# EAGLE library part FRM12 (library RFM12)
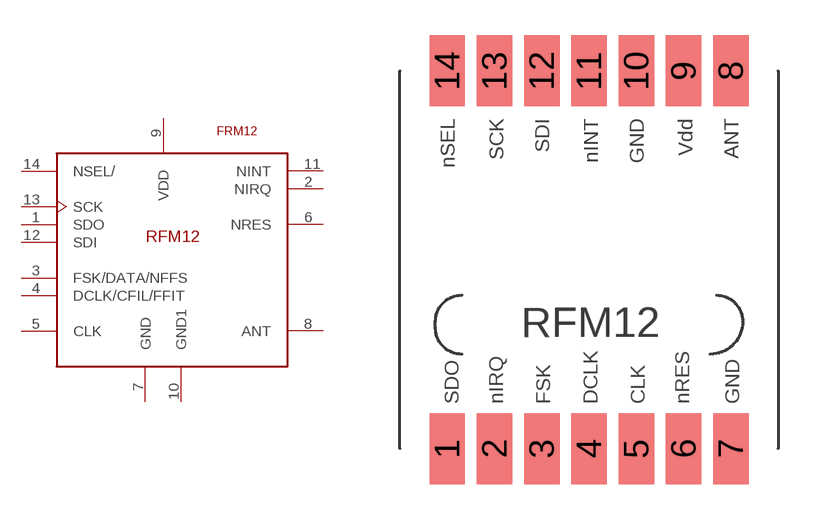
[diagram p0: symbol with the pads of RFM12; footprint RFM12]

Designator prefix -

## FRM12  [RFM12]
1  SDO  out
2  NIRQ  out
3  FSK/DATA/NFFS
4  DCLK/CFIL/FFIT
5  CLK  out
6  NRES
7  GND  pas
8  ANT
9  VDD  sup
10  GND1  pas
11  NINT
12  SDI  in
13  SCK  in
14  NSEL/  in

## Footprint RFM12 (pad centres in mm)
smd 1.5 x 3: 1 -5,-10; 2 -3,-10; 3 -1,-10; 4 1,-10; 5 3,-10; 6 5,-10; 7 7,-10; 8 7,6; 9 5,6; 10 3,6; 11 1,6; 12 -1,6; 13 -3,6; 14 -5,6